# Altium integrated library DIP SWITCH.IntLib: 4 symbols
Pins are listed as number, name and electrical type; pins without a type are passive.

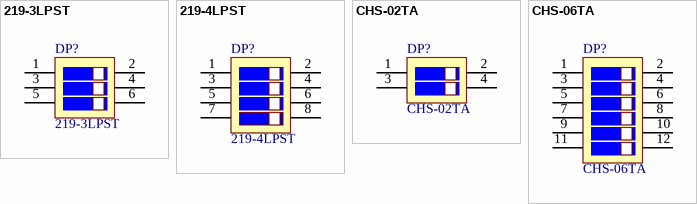
[diagram p0: symbols 219-3LPST to CHS-06TA]

## 219-3LPST
designator DP?
Switch DIP ON OFF SPST 3 Flush Slide 0.1A 20VDC Gull Wing 2.54mm SMD Tube; Manufacturer: CTS; Mechanical Life: 2000Cycles; Max Voltage Rating (DC): 20V; Number of Positions: 3; Current Rating: 100mA; Actuator Type: Slide (Standard); Pitch: 0.1inch; Washable: Yes; Supplier 1: Digi-Key; Manufacturer Part Number: 219-3LPST; Stock 1: 6147; Pricing 1: 1=0.68, 10=0.666, 25=0.6276, 60=0.58933, 120=0.56367, 300=0.53803, 540=0.48678, 1020=0.44835, 5040=0.36509 (USD); Mount: Surface Mount; Contact Plating: Gold,Tin; Contact Material: Copper; Min Operating Temperature: -55°C; Max Operating Temperature: 85°C; Throw Configuration: SPST; Package Quantity: 60; Packaging: Rail/Tube; Voltage Rating (DC): 20V; Termination: Gull Wing; Electrical Life: 2000Cycles; Orientation: Straight; Max Current Rating: 100mA; Length: 0.358inch; Terminal Pitch: 2.54mm; Depth: 9.91mm; Radiation Hardening: No; ComponentLink1URL: https://www.ctscorp.com/wp-content/uploads/219.pdf; ComponentLink1Description: https://www.ctscorp.com/wp-content/uploads/219.pdf; ComponentLink2URL: http://www.ctscorp.com/components/Datasheets/219.pdf; ComponentLink2Description: http://www.ctscorp.com/components/Datasheets/219.pdf; Value: 219-3LPST; Supplier Part Number 1: CT2193LPST-ND
footprint 219-3LPST
pins: 1, 2, 3, 4, 5, 6

## 219-4LPST
designator DP?
Switch DIP ON OFF SPST 4 Flush Slide 0.1A 20VDC Gull Wing 2.54mm SMD Tube; Manufacturer: CTS; Mechanical Life: 2000Cycles; Max Voltage Rating (DC): 20V; Number of Positions: 4; Current Rating: 100mA; Contact Resistance: 25mR; Actuator Type: Slide (Standard); Pitch: 0.1inch; Washable: Yes; Supplier 1: Digi-Key; Manufacturer Part Number: 219-4LPST; Stock 1: 18856; Pricing 1: 1=0.75, 10=0.737, 45=0.69467, 90=0.652, 135=0.6237, 270=0.59533, 540=0.53865, 1035=0.49613, 5040=0.40399 (USD); Mount: Surface Mount; Contact Plating: Gold,Tin; Contact Material: Copper; Min Operating Temperature: -55°C; Max Operating Temperature: 85°C; Throw Configuration: SPST; Termination: Gull Wing; Voltage Rating (DC): 20V; Life (Cycles): 2000Cycles; Packaging: Rail/Tube; Package Quantity: 45; Electrical Life: 2000Cycles; Max Current Rating: 100mA; Orientation: Straight; Length: 0.458inch; Height: 4.05mm; Terminal Pitch: 2.54mm; Depth: 9.91mm; Radiation Hardening: No; ComponentLink1URL: http://www.ctscorp.com/CHN/components/Datasheets/219.pdf; ComponentLink1Description: http://www.ctscorp.com/CHN/components/Datasheets/219.pdf; ComponentLink2URL: https://www.verical.com/server-webapp/html/getDatasheet?partID=115971; ComponentLink2Description: https://www.verical.com/server-webapp/html/getDatasheet?partID=115971; ComponentLink3URL: http://www.jameco.com/Jameco/Products/ProdDS/778314.pdf; ComponentLink3Description: http://www.jameco.com/Jameco/Products/ProdDS/778314.pdf; ComponentLink4URL: https://www.ctscorp.com/wp-content/uploads/219.pdf; ComponentLink4Description: https://www.ctscorp.com/wp-content/uploads/219.pdf; Value: 219-4LPST; Supplier Part Number 1: CT2194LPST-ND
footprint 219-4LPST
pins: 1, 2, 3, 4, 5, 6, 7, 8

## CHS-02TA
designator DP?
SWITCH SLIDE DIP SPST 100MA 6V; Manufacturer: Nidec Copal; Body Material: Polyphenylene; Number of Positions: 2; Electrical Life: 2000Cycles; Max Voltage Rating (DC): 24V; Actuator Type: Slide (Standard); Pitch: 0.05inch; Washable: Yes; Supplier 1: Digi-Key; Manufacturer Part Number: CHS-02TA; Stock 1: 12563; Pricing 1: 1 = 2,00000, 10 = 1,93900, 25 = 1,83920, 50 = 1,71940, 100 = 1,67930, 250 = 1,43944 (USD); RoHS: Yes; Mount: Surface Mount; Contact Material: Copper Alloy; Contact Plating: Gold; Min Operating Temperature: -40°C; Max Operating Temperature: 85°C; Packaging: Tape and Reel; Throw Configuration: SPST; Voltage Rating (DC): 6V; Current Rating: 100mA; Orientation: Vertical; Length: 0.161inch; Lead Free: Lead Free; ComponentLink1URL: https://datasheet.ciiva.com/2863/chs-2863576.pdf?src-supplier=Digi-Key; ComponentLink1Description: https://datasheet.ciiva.com/2863/chs-2863576.pdf?src-supplier=Digi-Key; ComponentLink2URL: https://datasheet.ciiva.com/2863/chs-2863577.pdf?src-supplier=Digi-Key; ComponentLink2Description: https://datasheet.ciiva.com/2863/chs-2863577.pdf?src-supplier=Digi-Key; ComponentLink3URL: https://datasheet.ciiva.com/2863/chs-2863578.pdf?src-supplier=Digi-Key; ComponentLink3Description: https://datasheet.ciiva.com/2863/chs-2863578.pdf?src-supplier=Digi-Key; Value: CHS-02TA; Supplier Part Number 1: 563-1005-1-ND; Termination: J-Hook
footprint CHS-02TA
pins: 1, 2, 3, 4

## CHS-06TA
designator DP?
SWITCH SLIDE DIP SPST 100MA 6V; Manufacturer 1: Nidec Copal; Body Material: Polyphenylene; Max Voltage Rating (DC): 24V; Number of Positions: 6; Electrical Life: 2000Cycles; Throw Configuration: SPST,6PST; Actuator Type: Slide (Standard); Pitch: 0.05inch; Washable: Yes; Supplier 1: Digi-Key; Manufacturer Part Number 1: CHS-06TA; Stock 1: 6559; Pricing 1: 1=2,46000, 10=2,39000, 25=2,26680, 50=2,11900, 100=2,06980, 250=1,77408 (USD); RoHS: Yes; Mount: Surface Mount; Contact Material: Copper Alloy; Contact Plating: Gold; Min Operating Temperature: -40°C; Max Operating Temperature: 85°C; Voltage Rating (DC): 6V; Packaging: Tape and Reel; Current Rating: 100mA; Termination: J-Hook; Orientation: Vertical; Length: 0.362inch; Radiation Hardening: No; Lead Free: Lead Free; ComponentLink1URL: https://datasheet.ciiva.com/2863/chs-2863689.pdf?src-supplier=Digi-Key; ComponentLink1Description: https://datasheet.ciiva.com/2863/chs-2863689.pdf?src-supplier=Digi-Key; ComponentLink2URL: https://datasheet.ciiva.com/2863/chs-2863690.pdf?src-supplier=Digi-Key; ComponentLink2Description: https://datasheet.ciiva.com/2863/chs-2863690.pdf?src-supplier=Digi-Key; ComponentLink3URL: https://datasheet.ciiva.com/2863/chs-2863691.pdf?src-supplier=Digi-Key; ComponentLink3Description: https://datasheet.ciiva.com/2863/chs-2863691.pdf?src-supplier=Digi-Key; Value: CHS-06TA; Supplier Part Number 1: 563-1009-1-ND
footprint CHS-06TA
pins: 1, 2, 3, 4, 5, 6, 7, 8, 9, 10, 11, 12